# Altium integrated library Oscillators - Crystals.IntLib: 746 symbols (part 13 of 17)
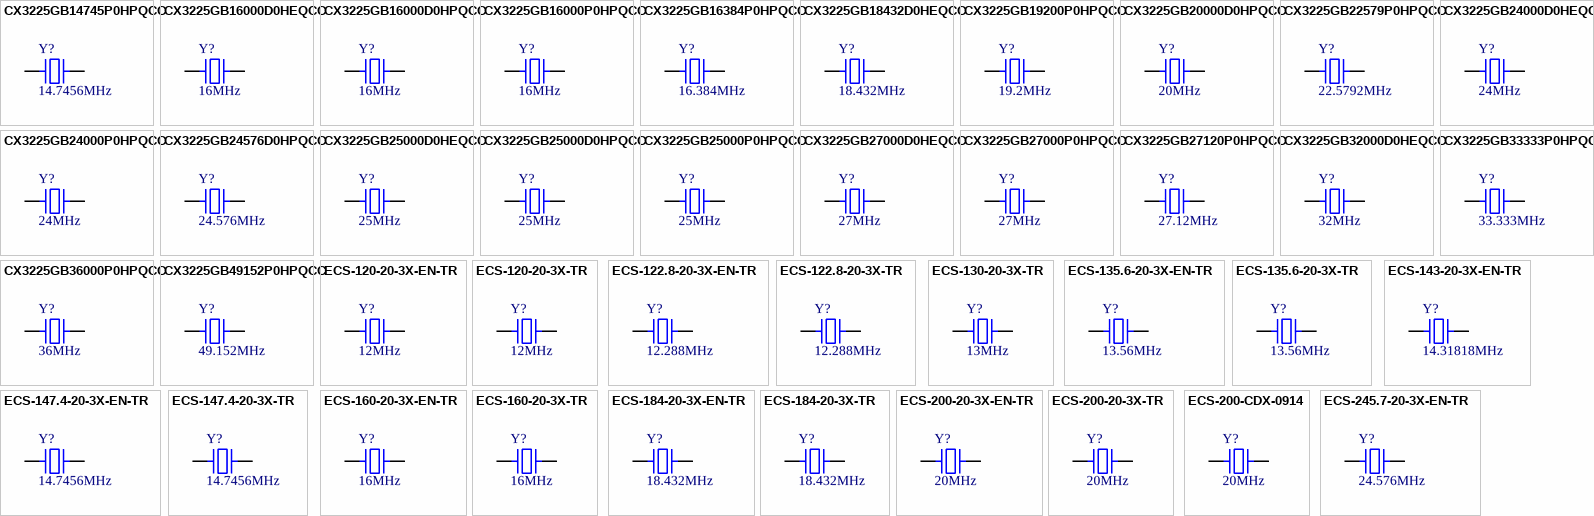
[diagram p30: symbols CX3225GB14745P0HPQCC to ECS-245.7-20-3X-EN-TR]

## ECS-122.8-20-3X-EN-TR
designator Y?, comment 12.288MHz
CRYSTAL 12.2880MHZ 20PF SMD; Part Number: ECS-122.8-20-3X-EN-TR; Manufacturer: ECS Inc.; ESR (Equivalent Series Resistance): 60 Ohms; Frequency Stability: ±50ppm; Frequency Tolerance: ±30ppm; Operating Mode: Fundamental; ComponentLink1Description: Datasheet; ComponentLink1URL: http://www.ecsxtal.com/store/pdf/CSM-3X.pdf; ComponentLink2Description: DigiKey Link; ComponentLink2URL: http://digikey.com/product-detail/en/ecs-inc/ECS-122.8-20-3X-EN-TR/XC1788CT-ND/2676652; Frequency: 12.288MHz; Height - Seated (Max): 0.091" (2.30mm); LastUpdated: 9/2/2020 1:21:54 AM; Lifecycle Status: Active; Load Capacitance: 20pF; Minimum Order: 1; Mounting Type: Surface Mount; Operating Temperature: -40°C ~ 85°C; Package / Case: HC-49/US; Packaging: TapeAndReel; PartId: 405; Part Status: Active; Price: 0.21; Series: CSM-3X; Size / Dimension: 0.276" L x 0.161" W (7.00mm x 4.10mm); Supplier 1: DigiKey; Supplier Part Number 1: XC1788CT-ND; Type: MHz Crystal; Value: 12.288MHz
footprint ECS CSM-3X
pins: 1, 2

## ECS-122.8-20-3X-TR
designator Y?, comment 12.288MHz
CRYSTAL 12.2880MHZ 20PF SMD; Part Number: ECS-122.8-20-3X-TR; Manufacturer: ECS Inc.; ESR (Equivalent Series Resistance): 60 Ohms; Frequency Stability: ±50ppm; Frequency Tolerance: ±30ppm; Operating Mode: Fundamental; ComponentLink1Description: Datasheet; ComponentLink1URL: http://www.ecsxtal.com/store/pdf/CSM-3X.pdf; ComponentLink2Description: DigiKey Link; ComponentLink2URL: http://digikey.com/product-detail/en/ecs-inc/ECS-122.8-20-3X-TR/XC1771CT-ND/2676635; Frequency: 12.288MHz; Height - Seated (Max): 0.091" (2.30mm); LastUpdated: 9/2/2020 1:21:54 AM; Lifecycle Status: Active; Load Capacitance: 20pF; Minimum Order: 1; Mounting Type: Surface Mount; Operating Temperature: -10°C ~ 70°C; Package / Case: HC-49/US; Packaging: CutTape; PartId: 415; Part Status: Active; Price: 0.38; Series: CSM-3X; Size / Dimension: 0.276" L x 0.161" W (7.00mm x 4.10mm); Supplier 1: DigiKey; Supplier Part Number 1: XC1771CT-ND; Type: MHz Crystal; Value: 12.288MHz
footprint ECS CSM-3X
pins: 1, 2

## ECS-130-20-3X-TR
designator Y?, comment 13MHz
CRYSTAL 13.0000MHZ 20PF SMD; Part Number: ECS-130-20-3X-TR; Manufacturer: ECS Inc.; ESR (Equivalent Series Resistance): 60 Ohms; Frequency Stability: ±50ppm; Frequency Tolerance: ±30ppm; Operating Mode: Fundamental; ComponentLink1Description: Datasheet; ComponentLink1URL: http://www.ecsxtal.com/store/pdf/CSM-3X.pdf; ComponentLink2Description: DigiKey Link; ComponentLink2URL: http://digikey.com/product-detail/en/ecs-inc/ECS-130-20-3X-TR/XC1772CT-ND/2676636; Frequency: 13MHz; Height - Seated (Max): 0.091" (2.30mm); LastUpdated: 9/2/2020 1:21:54 AM; Lifecycle Status: Active; Load Capacitance: 20pF; Minimum Order: 1; Mounting Type: Surface Mount; Operating Temperature: -10°C ~ 70°C; Package / Case: HC-49/US; Packaging: TapeAndReel; PartId: 422; Part Status: Active; Price: 0.17; Series: CSM-3X; Size / Dimension: 0.276" L x 0.161" W (7.00mm x 4.10mm); Supplier 1: DigiKey; Supplier Part Number 1: XC1772CT-ND; Type: MHz Crystal; Value: 13MHz
footprint ECS CSM-3X
pins: 1, 2

## ECS-135.6-20-3X-EN-TR
designator Y?, comment 13.56MHz
CRYSTAL 13.5600MHZ 20PF SMD; Part Number: ECS-135.6-20-3X-EN-TR; Manufacturer: ECS Inc.; ESR (Equivalent Series Resistance): 60 Ohms; Frequency Stability: ±50ppm; Frequency Tolerance: ±30ppm; Operating Mode: Fundamental; ComponentLink1Description: Datasheet; ComponentLink1URL: http://www.ecsxtal.com/store/pdf/CSM-3X.pdf; ComponentLink2Description: DigiKey Link; ComponentLink2URL: http://digikey.com/product-detail/en/ecs-inc/ECS-135.6-20-3X-EN-TR/XC1790CT-ND/2676654; Frequency: 13.56MHz; Height - Seated (Max): 0.091" (2.30mm); LastUpdated: 9/2/2020 1:21:54 AM; Lifecycle Status: Active; Load Capacitance: 20pF; Minimum Order: 1; Mounting Type: Surface Mount; Operating Temperature: -40°C ~ 85°C; Package / Case: HC-49/US; Packaging: TapeAndReel; PartId: 425; Part Status: Active; Price: 0.21; Series: CSM-3X; Size / Dimension: 0.276" L x 0.161" W (7.00mm x 4.10mm); Supplier 1: DigiKey; Supplier Part Number 1: XC1790CT-ND; Type: MHz Crystal; Value: 13.56MHz
footprint ECS CSM-3X
pins: 1, 2

## ECS-135.6-20-3X-TR
designator Y?, comment 13.56MHz
CRYSTAL 13.5600MHZ 20PF SMD; Part Number: ECS-135.6-20-3X-TR; Manufacturer: ECS Inc.; ESR (Equivalent Series Resistance): 60 Ohms; Frequency Stability: ±50ppm; Frequency Tolerance: ±30ppm; Operating Mode: Fundamental; ComponentLink1Description: Datasheet; ComponentLink1URL: http://www.ecsxtal.com/store/pdf/CSM-3X.pdf; ComponentLink2Description: DigiKey Link; ComponentLink2URL: http://digikey.com/product-detail/en/ecs-inc/ECS-135.6-20-3X-TR/XC1773CT-ND/2676637; Frequency: 13.56MHz; Height - Seated (Max): 0.091" (2.30mm); LastUpdated: 9/2/2020 1:21:54 AM; Lifecycle Status: Active; Load Capacitance: 20pF; Minimum Order: 1; Mounting Type: Surface Mount; Operating Temperature: -10°C ~ 70°C; Package / Case: HC-49/US; Packaging: CutTape; PartId: 413; Part Status: Active; Price: 0.38; Series: CSM-3X; Size / Dimension: 0.276" L x 0.161" W (7.00mm x 4.10mm); Supplier 1: DigiKey; Supplier Part Number 1: XC1773CT-ND; Type: MHz Crystal; Value: 13.56MHz
footprint ECS CSM-3X
pins: 1, 2

## ECS-143-20-3X-EN-TR
designator Y?, comment 14.31818MHz
CRYSTAL 14.31818MHZ 20PF SMD; Part Number: ECS-143-20-3X-EN-TR; Manufacturer: ECS Inc.; ESR (Equivalent Series Resistance): 60 Ohms; Frequency Stability: ±50ppm; Frequency Tolerance: ±30ppm; Operating Mode: Fundamental; ComponentLink1Description: Datasheet; ComponentLink1URL: http://www.ecsxtal.com/store/pdf/CSM-3X.pdf; ComponentLink2Description: DigiKey Link; ComponentLink2URL: http://digikey.com/product-detail/en/ecs-inc/ECS-143-20-3X-EN-TR/XC1791CT-ND/2676655; Frequency: 14.31818MHz; Height - Seated (Max): 0.091" (2.30mm); LastUpdated: 9/2/2020 1:21:54 AM; Lifecycle Status: Active; Load Capacitance: 20pF; Minimum Order: 1; Mounting Type: Surface Mount; Operating Temperature: -40°C ~ 85°C; Package / Case: HC-49/US; Packaging: TapeAndReel; PartId: 420; Part Status: Active; Price: 0.17; Series: CSM-3X; Size / Dimension: 0.276" L x 0.161" W (7.00mm x 4.10mm); Supplier 1: DigiKey; Supplier Part Number 1: XC1791CT-ND; Type: MHz Crystal; Value: 14.31818MHz
footprint ECS CSM-3X
pins: 1, 2

## ECS-147.4-20-3X-EN-TR
designator Y?, comment 14.7456MHz
CRYSTAL 14.7456MHZ 20PF SMD; Part Number: ECS-147.4-20-3X-EN-TR; Manufacturer: ECS Inc.; ESR (Equivalent Series Resistance): 60 Ohms; Frequency Stability: ±50ppm; Frequency Tolerance: ±30ppm; Operating Mode: Fundamental; ComponentLink1Description: Datasheet; ComponentLink1URL: http://www.ecsxtal.com/store/pdf/CSM-3X.pdf; ComponentLink2Description: DigiKey Link; ComponentLink2URL: http://digikey.com/product-detail/en/ecs-inc/ECS-147.4-20-3X-EN-TR/XC1792CT-ND/2676656; Frequency: 14.7456MHz; Height - Seated (Max): 0.091" (2.30mm); LastUpdated: 9/2/2020 1:21:54 AM; Lifecycle Status: Active; Load Capacitance: 20pF; Minimum Order: 1; Mounting Type: Surface Mount; Operating Temperature: -40°C ~ 85°C; Package / Case: HC-49/US; Packaging: CutTape; PartId: 423; Part Status: Active; Price: 0.46; Series: CSM-3X; Size / Dimension: 0.276" L x 0.161" W (7.00mm x 4.10mm); Supplier 1: DigiKey; Supplier Part Number 1: XC1792CT-ND; Type: MHz Crystal; Value: 14.7456MHz
footprint ECS CSM-3X
pins: 1, 2

## ECS-147.4-20-3X-TR
designator Y?, comment 14.7456MHz
CRYSTAL 14.7456MHZ 20PF SMD; Part Number: ECS-147.4-20-3X-TR; Manufacturer: ECS Inc.; ESR (Equivalent Series Resistance): 60 Ohms; Frequency Stability: ±50ppm; Frequency Tolerance: ±30ppm; Operating Mode: Fundamental; ComponentLink1Description: Datasheet; ComponentLink1URL: http://www.ecsxtal.com/store/pdf/CSM-3X.pdf; ComponentLink2Description: DigiKey Link; ComponentLink2URL: http://digikey.com/product-detail/en/ecs-inc/ECS-147.4-20-3X-TR/XC1775CT-ND/2676639; Frequency: 14.7456MHz; Height - Seated (Max): 0.091" (2.30mm); LastUpdated: 9/2/2020 1:21:54 AM; Lifecycle Status: Active; Load Capacitance: 20pF; Minimum Order: 1; Mounting Type: Surface Mount; Operating Temperature: -10°C ~ 70°C; Package / Case: HC-49/US; Packaging: TapeAndReel; PartId: 414; Part Status: Active; Price: 0.17; Series: CSM-3X; Size / Dimension: 0.276" L x 0.161" W (7.00mm x 4.10mm); Supplier 1: DigiKey; Supplier Part Number 1: XC1775CT-ND; Type: MHz Crystal; Value: 14.7456MHz
footprint ECS CSM-3X
pins: 1, 2

## ECS-160-20-3X-EN-TR
designator Y?, comment 16MHz
CRYSTAL 16.0000MHZ 20PF SMD; Part Number: ECS-160-20-3X-EN-TR; Manufacturer: ECS Inc.; ESR (Equivalent Series Resistance): 50 Ohms; Frequency Stability: ±50ppm; Frequency Tolerance: ±30ppm; Operating Mode: Fundamental; ComponentLink1Description: Datasheet; ComponentLink1URL: http://www.ecsxtal.com/store/pdf/CSM-3X.pdf; ComponentLink2Description: DigiKey Link; ComponentLink2URL: http://digikey.com/product-detail/en/ecs-inc/ECS-160-20-3X-EN-TR/XC1793CT-ND/2676657; Frequency: 16MHz; Height - Seated (Max): 0.091" (2.30mm); LastUpdated: 9/2/2020 1:21:54 AM; Lifecycle Status: Active; Load Capacitance: 20pF; Minimum Order: 1; Mounting Type: Surface Mount; Operating Temperature: -40°C ~ 85°C; Package / Case: HC-49/US; Packaging: TapeAndReel; PartId: 406; Part Status: Active; Price: 0.21; Series: CSM-3X; Size / Dimension: 0.276" L x 0.161" W (7.00mm x 4.10mm); Supplier 1: DigiKey; Supplier Part Number 1: XC1793CT-ND; Type: MHz Crystal; Value: 16MHz
footprint ECS CSM-3X
pins: 1, 2

## ECS-160-20-3X-TR
designator Y?, comment 16MHz
CRYSTAL 16.0000MHZ 20PF SMD; Part Number: ECS-160-20-3X-TR; Manufacturer: ECS Inc.; ESR (Equivalent Series Resistance): 50 Ohms; Frequency Stability: ±50ppm; Frequency Tolerance: ±30ppm; Operating Mode: Fundamental; ComponentLink1Description: Datasheet; ComponentLink1URL: http://www.ecsxtal.com/store/pdf/CSM-3X.pdf; ComponentLink2Description: DigiKey Link; ComponentLink2URL: http://digikey.com/product-detail/en/ecs-inc/ECS-160-20-3X-TR/XC1776CT-ND/2676640; Frequency: 16MHz; Height - Seated (Max): 0.091" (2.30mm); LastUpdated: 9/2/2020 1:21:54 AM; Lifecycle Status: Active; Load Capacitance: 20pF; Minimum Order: 1; Mounting Type: Surface Mount; Operating Temperature: -10°C ~ 70°C; Package / Case: HC-49/US; Packaging: TapeAndReel; PartId: 400; Part Status: Active; Price: 0.17; Series: CSM-3X; Size / Dimension: 0.276" L x 0.161" W (7.00mm x 4.10mm); Supplier 1: DigiKey; Supplier Part Number 1: XC1776CT-ND; Type: MHz Crystal; Value: 16MHz
footprint ECS CSM-3X
pins: 1, 2

## ECS-184-20-3X-EN-TR
designator Y?, comment 18.432MHz
CRYSTAL 18.4320MHZ 20PF SMD; Part Number: ECS-184-20-3X-EN-TR; Manufacturer: ECS Inc.; ESR (Equivalent Series Resistance): 50 Ohms; Frequency Stability: ±50ppm; Frequency Tolerance: ±30ppm; Operating Mode: Fundamental; ComponentLink1Description: Datasheet; ComponentLink1URL: http://www.ecsxtal.com/store/pdf/CSM-3X.pdf; ComponentLink2Description: DigiKey Link; ComponentLink2URL: http://digikey.com/product-detail/en/ecs-inc/ECS-184-20-3X-EN-TR/XC1794CT-ND/2676658; Frequency: 18.432MHz; Height - Seated (Max): 0.091" (2.30mm); LastUpdated: 9/2/2020 1:21:54 AM; Lifecycle Status: Active; Load Capacitance: 20pF; Minimum Order: 1; Mounting Type: Surface Mount; Operating Temperature: -40°C ~ 85°C; Package / Case: HC-49/US; Packaging: TapeAndReel; PartId: 410; Part Status: Active; Price: 0.17; Series: CSM-3X; Size / Dimension: 0.276" L x 0.161" W (7.00mm x 4.10mm); Supplier 1: DigiKey; Supplier Part Number 1: XC1794CT-ND; Type: MHz Crystal; Value: 18.432MHz
footprint ECS CSM-3X
pins: 1, 2

## ECS-184-20-3X-TR
designator Y?, comment 18.432MHz
CRYSTAL 18.4320MHZ 20PF SMD; Part Number: ECS-184-20-3X-TR; Manufacturer: ECS Inc.; ESR (Equivalent Series Resistance): 50 Ohms; Frequency Stability: ±50ppm; Frequency Tolerance: ±30ppm; Operating Mode: Fundamental; ComponentLink1Description: Datasheet; ComponentLink1URL: http://www.ecsxtal.com/store/pdf/CSM-3X.pdf; ComponentLink2Description: DigiKey Link; ComponentLink2URL: http://digikey.com/product-detail/en/ecs-inc/ECS-184-20-3X-TR/XC1777CT-ND/2676641; Frequency: 18.432MHz; Height - Seated (Max): 0.091" (2.30mm); LastUpdated: 9/2/2020 1:21:54 AM; Lifecycle Status: Active; Load Capacitance: 20pF; Minimum Order: 1; Mounting Type: Surface Mount; Operating Temperature: -10°C ~ 70°C; Package / Case: HC-49/US; Packaging: TapeAndReel; PartId: 402; Part Status: Active; Price: 0.17; Series: CSM-3X; Size / Dimension: 0.276" L x 0.161" W (7.00mm x 4.10mm); Supplier 1: DigiKey; Supplier Part Number 1: XC1777CT-ND; Type: MHz Crystal; Value: 18.432MHz
footprint ECS CSM-3X
pins: 1, 2

## ECS-200-20-3X-EN-TR
designator Y?, comment 20MHz
CRYSTAL 20.0000MHZ 20PF SMD; Part Number: ECS-200-20-3X-EN-TR; Manufacturer: ECS Inc.; ESR (Equivalent Series Resistance): 50 Ohms; Frequency Stability: ±50ppm; Frequency Tolerance: ±30ppm; Operating Mode: Fundamental; ComponentLink1Description: Datasheet; ComponentLink1URL: http://www.ecsxtal.com/store/pdf/CSM-3X.pdf; ComponentLink2Description: DigiKey Link; ComponentLink2URL: http://digikey.com/product-detail/en/ecs-inc/ECS-200-20-3X-EN-TR/XC1796CT-ND/2676660; Frequency: 20MHz; Height - Seated (Max): 0.091" (2.30mm); LastUpdated: 9/2/2020 1:21:54 AM; Lifecycle Status: Active; Load Capacitance: 20pF; Minimum Order: 1; Mounting Type: Surface Mount; Operating Temperature: -40°C ~ 85°C; Package / Case: HC-49/US; Packaging: TapeAndReel; PartId: 408; Part Status: Active; Price: 0.24; Series: CSM-3X; Size / Dimension: 0.276" L x 0.161" W (7.00mm x 4.10mm); Supplier 1: DigiKey; Supplier Part Number 1: XC1796CT-ND; Type: MHz Crystal; Value: 20MHz
footprint ECS CSM-3X
pins: 1, 2

## ECS-200-20-3X-TR
designator Y?, comment 20MHz
CRYSTAL 20.0000MHZ 20PF SMD; Part Number: ECS-200-20-3X-TR; Manufacturer: ECS Inc.; ESR (Equivalent Series Resistance): 50 Ohms; Frequency Stability: ±50ppm; Frequency Tolerance: ±30ppm; Operating Mode: Fundamental; ComponentLink1Description: Datasheet; ComponentLink1URL: http://www.ecsxtal.com/store/pdf/CSM-3X.pdf; ComponentLink2Description: DigiKey Link; ComponentLink2URL: http://digikey.com/product-detail/en/ecs-inc/ECS-200-20-3X-TR/XC1779CT-ND/2676643; Frequency: 20MHz; Height - Seated (Max): 0.091" (2.30mm); LastUpdated: 9/2/2020 1:21:54 AM; Lifecycle Status: Active; Load Capacitance: 20pF; Minimum Order: 1; Mounting Type: Surface Mount; Operating Temperature: -10°C ~ 70°C; Package / Case: HC-49/US; Packaging: TapeAndReel; PartId: 416; Part Status: Active; Price: 0.17; Series: CSM-3X; Size / Dimension: 0.276" L x 0.161" W (7.00mm x 4.10mm); Supplier 1: DigiKey; Supplier Part Number 1: XC1779CT-ND; Type: MHz Crystal; Value: 20MHz
footprint ECS CSM-3X
pins: 1, 2

## ECS-200-CDX-0914
designator Y?, comment 20MHz
CRYSTAL 20.0000MHZ 10PF SMD; Part Number: ECS-200-CDX-0914; Manufacturer: ECS Inc.; ESR (Equivalent Series Resistance): 50 Ohms; Frequency Stability: ±30ppm; Frequency Tolerance: ±10ppm; Operating Mode: Fundamental; ComponentLink1Description: Datasheet; ComponentLink1URL: http://www.ecsxtal.com/store/pdf/partnumber4.pdf; ComponentLink2Description: DigiKey Link; ComponentLink2URL: http://digikey.com/product-detail/en/ecs-inc/ECS-200-CDX-0914/XC1929CT-ND/3927419; Frequency: 20MHz; Height - Seated (Max): 0.091" (2.30mm); LastUpdated: 9/2/2020 1:21:54 AM; Lifecycle Status: Active; Load Capacitance: 10pF; Minimum Order: 1; Mounting Type: Surface Mount; Operating Temperature: -60°C ~ 105°C; Package / Case: HC-49/US; Packaging: TapeAndReel; PartId: 426; Part Status: Active; Price: 0.48; Series: CSM-3X; Size / Dimension: 0.299" L x 0.161" W (7.60mm x 4.10mm); Supplier 1: DigiKey; Supplier Part Number 1: XC1929CT-ND; Type: MHz Crystal; Value: 20MHz
footprint ECS CSM-3X
pins: 1, 2

## ECS-245.7-20-3X-EN-TR
designator Y?, comment 24.576MHz
CRYSTAL 24.5760MHZ 20PF SMD; Part Number: ECS-245.7-20-3X-EN-TR; Manufacturer: ECS Inc.; ESR (Equivalent Series Resistance): 50 Ohms; Frequency Stability: ±50ppm; Frequency Tolerance: ±30ppm; Operating Mode: Fundamental; ComponentLink1Description: Datasheet; ComponentLink1URL: http://www.ecsxtal.com/store/pdf/CSM-3X.pdf; ComponentLink2Description: DigiKey Link; ComponentLink2URL: http://digikey.com/product-detail/en/ecs-inc/ECS-245.7-20-3X-EN-TR/XC1797CT-ND/2676661; Frequency: 24.576MHz; Height - Seated (Max): 0.091" (2.30mm); LastUpdated: 9/2/2020 1:21:54 AM; Lifecycle Status: Active; Load Capacitance: 20pF; Minimum Order: 1; Mounting Type: Surface Mount; Operating Temperature: -40°C ~ 85°C; Package / Case: HC-49/US; Packaging: TapeAndReel; PartId: 399; Part Status: Active; Price: 0.17; Series: CSM-3X; Size / Dimension: 0.276" L x 0.161" W (7.00mm x 4.10mm); Supplier 1: DigiKey; Supplier Part Number 1: XC1797CT-ND; Type: MHz Crystal; Value: 24.576MHz
footprint ECS CSM-3X
pins: 1, 2

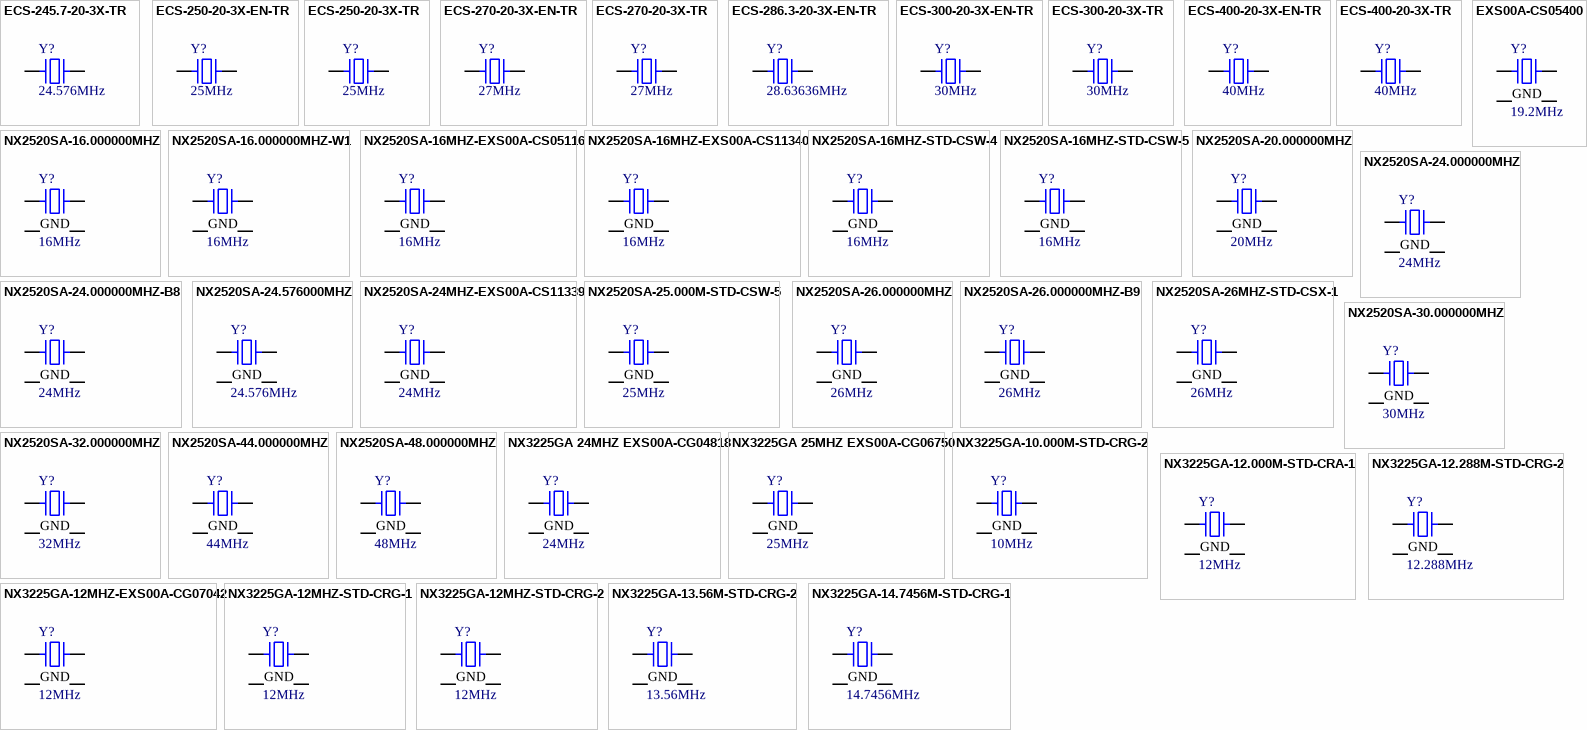
[diagram p14: symbols ECS-245.7-20-3X-TR to NX3225GA-14.7456M-STD-CRG-1]

## ECS-245.7-20-3X-TR
designator Y?, comment 24.576MHz
CRYSTAL 24.5760MHZ 20PF SMD; Part Number: ECS-245.7-20-3X-TR; Manufacturer: ECS Inc.; ESR (Equivalent Series Resistance): 50 Ohms; Frequency Stability: ±50ppm; Frequency Tolerance: ±30ppm; Operating Mode: Fundamental; ComponentLink1Description: Datasheet; ComponentLink1URL: http://www.ecsxtal.com/store/pdf/CSM-3X.pdf; ComponentLink2Description: DigiKey Link; ComponentLink2URL: http://digikey.com/product-detail/en/ecs-inc/ECS-245.7-20-3X-TR/XC1780CT-ND/2676644; Frequency: 24.576MHz; Height - Seated (Max): 0.091" (2.30mm); LastUpdated: 9/2/2020 1:21:54 AM; Lifecycle Status: Active; Load Capacitance: 20pF; Minimum Order: 1; Mounting Type: Surface Mount; Operating Temperature: -10°C ~ 70°C; Package / Case: HC-49/US; Packaging: CutTape; PartId: 412; Part Status: Active; Price: 0.38; Series: CSM-3X; Size / Dimension: 0.276" L x 0.161" W (7.00mm x 4.10mm); Supplier 1: DigiKey; Supplier Part Number 1: XC1780CT-ND; Type: MHz Crystal; Value: 24.576MHz
footprint ECS CSM-3X
pins: 1, 2

## ECS-250-20-3X-EN-TR
designator Y?, comment 25MHz
CRYSTAL 25.0000MHZ 20PF SMD; Part Number: ECS-250-20-3X-EN-TR; Manufacturer: ECS Inc.; ESR (Equivalent Series Resistance): 50 Ohms; Frequency Stability: ±50ppm; Frequency Tolerance: ±30ppm; Operating Mode: Fundamental; ComponentLink1Description: Datasheet; ComponentLink1URL: http://www.ecsxtal.com/store/pdf/CSM-3X.pdf; ComponentLink2Description: DigiKey Link; ComponentLink2URL: http://digikey.com/product-detail/en/ecs-inc/ECS-250-20-3X-EN-TR/XC1798CT-ND/2676662; Frequency: 25MHz; Height - Seated (Max): 0.091" (2.30mm); LastUpdated: 9/2/2020 1:21:54 AM; Lifecycle Status: Active; Load Capacitance: 20pF; Minimum Order: 1; Mounting Type: Surface Mount; Operating Temperature: -40°C ~ 85°C; Package / Case: HC-49/US; Packaging: TapeAndReel; PartId: 424; Part Status: Active; Price: 0.21; Series: CSM-3X; Size / Dimension: 0.276" L x 0.161" W (7.00mm x 4.10mm); Supplier 1: DigiKey; Supplier Part Number 1: XC1798CT-ND; Type: MHz Crystal; Value: 25MHz
footprint ECS CSM-3X
pins: 1, 2

## ECS-250-20-3X-TR
designator Y?, comment 25MHz
CRYSTAL 25.0000MHZ 20PF SMD; Part Number: ECS-250-20-3X-TR; Manufacturer: ECS Inc.; ESR (Equivalent Series Resistance): 50 Ohms; Frequency Stability: ±50ppm; Frequency Tolerance: ±30ppm; Operating Mode: Fundamental; ComponentLink1Description: Datasheet; ComponentLink1URL: http://www.ecsxtal.com/store/pdf/CSM-3X.pdf; ComponentLink2Description: DigiKey Link; ComponentLink2URL: http://digikey.com/product-detail/en/ecs-inc/ECS-250-20-3X-TR/XC1781CT-ND/2676645; Frequency: 25MHz; Height - Seated (Max): 0.091" (2.30mm); LastUpdated: 9/2/2020 1:21:54 AM; Lifecycle Status: Active; Load Capacitance: 20pF; Minimum Order: 1; Mounting Type: Surface Mount; Operating Temperature: -10°C ~ 70°C; Package / Case: 2-SMD, No Lead; Packaging: TapeAndReel; PartId: 409; Part Status: Active; Price: 0.17; Series: CSM-3X; Size / Dimension: 0.276" L x 0.161" W (7.00mm x 4.10mm); Supplier 1: DigiKey; Supplier Part Number 1: XC1781CT-ND; Type: MHz Crystal; Value: 25MHz
footprint ECS CSM-3X
pins: 1, 2

## ECS-270-20-3X-EN-TR
designator Y?, comment 27MHz
CRYSTAL 27.0000MHZ 20PF SMD; Part Number: ECS-270-20-3X-EN-TR; Manufacturer: ECS Inc.; ESR (Equivalent Series Resistance): 50 Ohms; Frequency Stability: ±50ppm; Frequency Tolerance: ±30ppm; Operating Mode: Fundamental; ComponentLink1Description: Datasheet; ComponentLink1URL: http://www.ecsxtal.com/store/pdf/CSM-3X.pdf; ComponentLink2Description: DigiKey Link; ComponentLink2URL: http://digikey.com/product-detail/en/ecs-inc/ECS-270-20-3X-EN-TR/XC1799CT-ND/2676663; Frequency: 27MHz; Height - Seated (Max): 0.091" (2.30mm); LastUpdated: 9/2/2020 1:21:54 AM; Lifecycle Status: Active; Load Capacitance: 20pF; Minimum Order: 1; Mounting Type: Surface Mount; Operating Temperature: -40°C ~ 85°C; Package / Case: HC-49/US; Packaging: TapeAndReel; PartId: 404; Part Status: Active; Price: 0.17; Series: CSM-3X; Size / Dimension: 0.276" L x 0.161" W (7.00mm x 4.10mm); Supplier 1: DigiKey; Supplier Part Number 1: XC1799CT-ND; Type: MHz Crystal; Value: 27MHz
footprint ECS CSM-3X
pins: 1, 2

## ECS-270-20-3X-TR
designator Y?, comment 27MHz
CRYSTAL 27.0000MHZ 20PF SMD; Part Number: ECS-270-20-3X-TR; Manufacturer: ECS Inc.; ESR (Equivalent Series Resistance): 50 Ohms; Frequency Stability: ±50ppm; Frequency Tolerance: ±30ppm; Operating Mode: Fundamental; ComponentLink1Description: Datasheet; ComponentLink1URL: http://www.ecsxtal.com/store/pdf/CSM-3X.pdf; ComponentLink2Description: DigiKey Link; ComponentLink2URL: http://digikey.com/product-detail/en/ecs-inc/ECS-270-20-3X-TR/XC1782CT-ND/2676646; Frequency: 27MHz; Height - Seated (Max): 0.091" (2.30mm); LastUpdated: 9/2/2020 1:21:54 AM; Lifecycle Status: Active; Load Capacitance: 20pF; Minimum Order: 1; Mounting Type: Surface Mount; Operating Temperature: -10°C ~ 70°C; Package / Case: HC-49/US; Packaging: TapeAndReel; PartId: 411; Part Status: Active; Price: 0.17; Series: CSM-3X; Size / Dimension: 0.276" L x 0.161" W (7.00mm x 4.10mm); Supplier 1: DigiKey; Supplier Part Number 1: XC1782CT-ND; Type: MHz Crystal; Value: 27MHz
footprint ECS CSM-3X
pins: 1, 2

## ECS-286.3-20-3X-EN-TR
designator Y?, comment 28.63636MHz
CRYSTAL 28.63636MHZ 20PF SMD; Part Number: ECS-286.3-20-3X-EN-TR; Manufacturer: ECS Inc.; ESR (Equivalent Series Resistance): 50 Ohms; Frequency Stability: ±50ppm; Frequency Tolerance: ±30ppm; Operating Mode: Fundamental; ComponentLink1Description: Datasheet; ComponentLink1URL: http://www.ecsxtal.com/store/pdf/CSM-3X.pdf; ComponentLink2Description: DigiKey Link; ComponentLink2URL: http://digikey.com/product-detail/en/ecs-inc/ECS-286.3-20-3X-EN-TR/XC1800CT-ND/2676664; Frequency: 28.63636MHz; Height - Seated (Max): 0.091" (2.30mm); LastUpdated: 9/2/2020 1:21:54 AM; Lifecycle Status: Active; Load Capacitance: 20pF; Minimum Order: 1; Mounting Type: Surface Mount; Operating Temperature: -40°C ~ 85°C; Package / Case: HC-49/US; Packaging: TapeAndReel; PartId: 417; Part Status: Active; Price: 0.17; Series: CSM-3X; Size / Dimension: 0.276" L x 0.161" W (7.00mm x 4.10mm); Supplier 1: DigiKey; Supplier Part Number 1: XC1800CT-ND; Type: MHz Crystal; Value: 28.63636MHz
footprint ECS CSM-3X
pins: 1, 2

## ECS-300-20-3X-EN-TR
designator Y?, comment 30MHz
CRYSTAL 30.0000MHZ 20PF SMD; Part Number: ECS-300-20-3X-EN-TR; Manufacturer: ECS Inc.; ESR (Equivalent Series Resistance): 40 Ohms; Frequency Stability: ±50ppm; Frequency Tolerance: ±30ppm; Operating Mode: Fundamental; ComponentLink1Description: Datasheet; ComponentLink1URL: http://www.ecsxtal.com/store/pdf/CSM-3X.pdf; ComponentLink2Description: DigiKey Link; ComponentLink2URL: http://digikey.com/product-detail/en/ecs-inc/ECS-300-20-3X-EN-TR/XC1801CT-ND/2676665; Frequency: 30MHz; Height - Seated (Max): 0.091" (2.30mm); LastUpdated: 9/2/2020 1:21:54 AM; Lifecycle Status: Active; Load Capacitance: 20pF; Minimum Order: 1; Mounting Type: Surface Mount; Operating Temperature: -40°C ~ 85°C; Package / Case: HC-49/US; Packaging: CutTape; PartId: 418; Part Status: Active; Price: 0.38; Series: CSM-3X; Size / Dimension: 0.276" L x 0.161" W (7.00mm x 4.10mm); Supplier 1: DigiKey; Supplier Part Number 1: XC1801CT-ND; Type: MHz Crystal; Value: 30MHz
footprint ECS CSM-3X
pins: 1, 2

## ECS-300-20-3X-TR
designator Y?, comment 30MHz
CRYSTAL 30.0000MHZ 20PF SMD; Part Number: ECS-300-20-3X-TR; Manufacturer: ECS Inc.; ESR (Equivalent Series Resistance): 40 Ohms; Frequency Stability: ±50ppm; Frequency Tolerance: ±30ppm; Operating Mode: Fundamental; ComponentLink1Description: Datasheet; ComponentLink1URL: http://www.ecsxtal.com/store/pdf/CSM-3X.pdf; ComponentLink2Description: DigiKey Link; ComponentLink2URL: http://digikey.com/product-detail/en/ecs-inc/ECS-300-20-3X-TR/XC1784CT-ND/2676648; Frequency: 30MHz; Height - Seated (Max): 0.091" (2.30mm); LastUpdated: 9/2/2020 1:21:54 AM; Lifecycle Status: Active; Load Capacitance: 20pF; Minimum Order: 1; Mounting Type: Surface Mount; Operating Temperature: -10°C ~ 70°C; Package / Case: HC-49/US; Packaging: TapeAndReel; PartId: 421; Part Status: Active; Price: 0.17; Series: CSM-3X; Size / Dimension: 0.276" L x 0.161" W (7.00mm x 4.10mm); Supplier 1: DigiKey; Supplier Part Number 1: XC1784CT-ND; Type: MHz Crystal; Value: 30MHz
footprint ECS CSM-3X
pins: 1, 2

## ECS-400-20-3X-EN-TR
designator Y?, comment 40MHz
CRYSTAL 40.0000MHZ 20PF SMD; Part Number: ECS-400-20-3X-EN-TR; Manufacturer: ECS Inc.; ESR (Equivalent Series Resistance): 40 Ohms; Frequency Stability: ±50ppm; Frequency Tolerance: ±30ppm; Operating Mode: Fundamental; ComponentLink1Description: Datasheet; ComponentLink1URL: http://www.ecsxtal.com/store/pdf/CSM-3X.pdf; ComponentLink2Description: DigiKey Link; ComponentLink2URL: http://digikey.com/product-detail/en/ecs-inc/ECS-400-20-3X-EN-TR/XC1803CT-ND/2676667; Frequency: 40MHz; Height - Seated (Max): 0.091" (2.30mm); LastUpdated: 9/2/2020 1:21:54 AM; Lifecycle Status: Active; Load Capacitance: 20pF; Minimum Order: 1; Mounting Type: Surface Mount; Operating Temperature: -40°C ~ 85°C; Package / Case: HC-49/US; Packaging: CutTape; PartId: 419; Part Status: Active; Price: 0.38; Series: CSM-3X; Size / Dimension: 0.276" L x 0.161" W (7.00mm x 4.10mm); Supplier 1: DigiKey; Supplier Part Number 1: XC1803CT-ND; Type: MHz Crystal; Value: 40MHz
footprint ECS CSM-3X
pins: 1, 2

## ECS-400-20-3X-TR
designator Y?, comment 40MHz
CRYSTAL 40.0000MHZ 20PF SMD; Part Number: ECS-400-20-3X-TR; Manufacturer: ECS Inc.; ESR (Equivalent Series Resistance): 40 Ohms; Frequency Stability: ±50ppm; Frequency Tolerance: ±30ppm; Operating Mode: Fundamental; ComponentLink1Description: Datasheet; ComponentLink1URL: http://www.ecsxtal.com/store/pdf/CSM-3X.pdf; ComponentLink2Description: DigiKey Link; ComponentLink2URL: http://digikey.com/product-detail/en/ecs-inc/ECS-400-20-3X-TR/XC1786CT-ND/2676650; Frequency: 40MHz; Height - Seated (Max): 0.091" (2.30mm); LastUpdated: 9/2/2020 1:21:54 AM; Lifecycle Status: Active; Load Capacitance: 20pF; Minimum Order: 1; Mounting Type: Surface Mount; Operating Temperature: -10°C ~ 70°C; Package / Case: HC-49/US; Packaging: TapeAndReel; PartId: 403; Part Status: Active; Price: 0.17; Series: CSM-3X; Size / Dimension: 0.276" L x 0.161" W (7.00mm x 4.10mm); Supplier 1: DigiKey; Supplier Part Number 1: XC1786CT-ND; Type: MHz Crystal; Value: 40MHz
footprint ECS CSM-3X
pins: 1, 2

## EXS00A-CS05400
designator Y?, comment 19.2MHz
CRYSTAL 19.2000MHZ 13PF SMD; Part Number: EXS00A-CS05400; Manufacturer: NDK America, Inc.; ESR (Equivalent Series Resistance): 60 Ohms; Frequency Stability: ±30ppm; Frequency Tolerance: ±20ppm; Operating Mode: Fundamental; ComponentLink1Description: Datasheet; ComponentLink1URL: //media.digikey.com/pdf/Data%20Sheets/NDK%20PDFs/NX2520SA-19.200000MHZ-NBG1.pdf; ComponentLink2Description: DigiKey Link; ComponentLink2URL: http://digikey.com/product-detail/en/ndk-america-inc/EXS00A-CS05400/644-1162-1-ND/3125551; Frequency: 19.2MHz; Height - Seated (Max): 0.022" (0.55mm); LastUpdated: 9/2/2020 1:21:57 AM; Lifecycle Status: Active; Load Capacitance: 13pF; Minimum Order: 1; Mounting Type: Surface Mount; Operating Temperature: -30°C ~ 85°C; Package / Case: 4-SMD, No Lead; Packaging: TapeAndReel; PartId: 530; Part Status: Active; Price: 0.66; Series: NX2520SA; Size / Dimension: 0.098" L x 0.079" W (2.50mm x 2.00mm); Supplier 1: DigiKey; Supplier Part Number 1: 644-1162-1-ND; Type: MHz Crystal; Value: 19.2MHz
footprint NDK NX2520SA
pins: 1, 2 GND, 3, 4 GND

## NX2520SA-16.000000MHZ
designator Y?, comment 16MHz
CRYSTAL 16.0000MHZ 10PF SMD; Part Number: NX2520SA-16.000000MHZ; Manufacturer: NDK America, Inc.; ESR (Equivalent Series Resistance): 80 Ohms; Frequency Stability: ±10ppm; Operating Mode: Fundamental; ComponentLink1Description: Datasheet; ComponentLink1URL: //media.digikey.com/pdf/Data%20Sheets/NDK%20PDFs/NX2520SA_16-48MHZ.pdf; ComponentLink2Description: DigiKey Link; ComponentLink2URL: http://digikey.com/product-detail/en/ndk-america-inc/NX2520SA-16.000000MHZ/644-1059-1-ND/1128931; Frequency: 16MHz; Frequency Tolerance: ±10ppm; Height - Seated (Max): 0.026" (0.65mm); LastUpdated: 9/2/2020 1:21:57 AM; Lifecycle Status: Active; Load Capacitance: 10pF; Minimum Order: 1; Mounting Type: Surface Mount; Operating Temperature: -10°C ~ 60°C; Package / Case: 4-SMD, No Lead; Packaging: TapeAndReel; PartId: 531; Part Status: Active; Price: 0.73; Series: NX2520SA; Size / Dimension: 0.098" L x 0.079" W (2.50mm x 2.00mm); Supplier 1: DigiKey; Supplier Part Number 1: 644-1059-1-ND; Type: MHz Crystal; Value: 16MHz
footprint NDK NX2520SA
pins: 1, 2 GND, 3, 4 GND

## NX2520SA-16.000000MHZ-W1
designator Y?, comment 16MHz
CRYSTAL 16.0000MHZ 8PF SMD; Part Number: NX2520SA-16.000000MHZ-W1; Manufacturer: NDK America, Inc.; ESR (Equivalent Series Resistance): 120 Ohms; Frequency Stability: ±20ppm; Operating Mode: Fundamental; ComponentLink1Description: Datasheet; ComponentLink1URL: //media.digikey.com/pdf/Data Sheets/NDK PDFs/NX2520SA-16.000000MHz-W1.pdf; ComponentLink2Description: DigiKey Link; ComponentLink2URL: http://digikey.com/product-detail/en/ndk-america-inc/NX2520SA-16.000000MHZ-W1/644-1093-1-ND/1468354; Frequency: 16MHz; Frequency Tolerance: ±20ppm; Height - Seated (Max): 0.026" (0.65mm); LastUpdated: 9/2/2020 1:21:57 AM; Lifecycle Status: Active; Load Capacitance: 8pF; Minimum Order: 1; Mounting Type: Surface Mount; Operating Temperature: -40°C ~ 85°C; Package / Case: 4-SMD, No Lead; Packaging: TapeAndReel; PartId: 523; Part Status: Active; Price: 0.79; Series: NX2520SA; Size / Dimension: 0.098" L x 0.079" W (2.50mm x 2.00mm); Supplier 1: DigiKey; Supplier Part Number 1: 644-1093-1-ND; Type: MHz Crystal; Value: 16MHz
footprint NDK NX2520SA
pins: 1, 2 GND, 3, 4 GND

## NX2520SA-16MHZ-EXS00A-CS05116
designator Y?, comment 16MHz
CRYSTAL 16.0000MHZ 12PF SMD; Part Number: NX2520SA-16MHZ-EXS00A-CS05116; Manufacturer: NDK America, Inc.; ESR (Equivalent Series Resistance): 80 Ohms; Frequency Stability: ±15ppm; Operating Mode: Fundamental; ComponentLink1Description: Datasheet; ComponentLink1URL: //media.digikey.com/pdf/Data%20Sheets/NDK%20PDFs/NX2520SA-16MHZ-EXS00A-CS05116.pdf; ComponentLink2Description: DigiKey Link; ComponentLink2URL: http://digikey.com/product-detail/en/ndk-america-inc/NX2520SA-16MHZ-EXS00A-CS05116/644-1200-1-ND/3894082; Frequency: 16MHz; Frequency Tolerance: ±15ppm; Height - Seated (Max): 0.022" (0.55mm); LastUpdated: 9/2/2020 1:21:57 AM; Lifecycle Status: Active; Load Capacitance: 12pF; Minimum Order: 1; Mounting Type: Surface Mount; Operating Temperature: -10°C ~ 75°C; Package / Case: 4-SMD, No Lead; Packaging: TapeAndReel; PartId: 522; Part Status: Active; Price: 0.79; Series: NX2520SA; Size / Dimension: 0.098" L x 0.079" W (2.50mm x 2.00mm); Supplier 1: DigiKey; Supplier Part Number 1: 644-1200-1-ND; Type: MHz Crystal; Value: 16MHz
footprint NDK NX2520SA
pins: 1, 2 GND, 3, 4 GND

## NX2520SA-16MHZ-EXS00A-CS11340
designator Y?, comment 16MHz
CRYSTAL 16MHZ 8PF SMD; Part Number: NX2520SA-16MHZ-EXS00A-CS11340; Manufacturer: NDK America, Inc.; ESR (Equivalent Series Resistance): 80 Ohms; Frequency Stability: ±15ppm; Operating Mode: Fundamental; ComponentLink1Description: Datasheet; ComponentLink1URL: //media.digikey.com/pdf/Data%20Sheets/NDK%20PDFs/NX2520SA-16MHz-EXS00A-CS11340.pdf; ComponentLink2Description: DigiKey Link; ComponentLink2URL: http://digikey.com/product-detail/en/ndk-america-inc/NX2520SA-16MHZ-EXS00A-CS11340/644-1327-1-ND/8275445; Frequency: 16MHz; Frequency Tolerance: ±15ppm; Height - Seated (Max): 0.022" (0.55mm); LastUpdated: 9/2/2020 1:21:57 AM; Lifecycle Status: Active; Load Capacitance: 8pF; Minimum Order: 1; Mounting Type: Surface Mount; Operating Temperature: -10°C ~ 70°C; Package / Case: 4-SMD, No Lead; Packaging: TapeAndReel; PartId: 525; Part Status: Active; Price: 0.73; Series: NX2520SA; Size / Dimension: 0.098" L x 0.079" W (2.50mm x 2.00mm); Supplier 1: DigiKey; Supplier Part Number 1: 644-1327-1-ND; Type: MHz Crystal; Value: 16MHz
footprint NDK NX2520SA
pins: 1, 2 GND, 3, 4 GND

## NX2520SA-16MHZ-STD-CSW-4
designator Y?, comment 16MHz
CRYSTAL 16.0000MHZ 8PF SMD; Part Number: NX2520SA-16MHZ-STD-CSW-4; Manufacturer: NDK America, Inc.; ESR (Equivalent Series Resistance): 80 Ohms; Frequency Stability: ±15ppm; Operating Mode: Fundamental; ComponentLink1Description: Datasheet; ComponentLink1URL: http://www.ndk.com/images/products/catalog/c_NX2520SA-STD-CSW-4_e.pdf; ComponentLink2Description: DigiKey Link; ComponentLink2URL: http://digikey.com/product-detail/en/ndk-america-inc/NX2520SA-16MHZ-STD-CSW-4/644-1168-1-ND/3125557; Frequency: 16MHz; Frequency Tolerance: ±15ppm; Height - Seated (Max): 0.022" (0.55mm); LastUpdated: 9/2/2020 1:21:57 AM; Lifecycle Status: Active; Load Capacitance: 8pF; Minimum Order: 1; Mounting Type: Surface Mount; Operating Temperature: -10°C ~ 75°C; Package / Case: 4-SMD, No Lead; Packaging: TapeAndReel; PartId: 529; Part Status: Active; Price: 0.58; Series: NX2520SA; Size / Dimension: 0.098" L x 0.079" W (2.50mm x 2.00mm); Supplier 1: DigiKey; Supplier Part Number 1: 644-1168-1-ND; Type: MHz Crystal; Value: 16MHz
footprint NDK NX2520SA
pins: 1, 2 GND, 3, 4 GND

## NX2520SA-16MHZ-STD-CSW-5
designator Y?, comment 16MHz
CRYSTAL 16.0000MHZ 8PF SMD; Part Number: NX2520SA-16MHZ-STD-CSW-5; Manufacturer: NDK America, Inc.; ESR (Equivalent Series Resistance): 80 Ohms; Frequency Stability: ±25ppm; Frequency Tolerance: ±15ppm; Operating Mode: Fundamental; ComponentLink1Description: Datasheet; ComponentLink1URL: http://www.ndk.com/images/products/catalog/c_NX2520SA-STD-CSW-5_e.pdf; ComponentLink2Description: DigiKey Link; ComponentLink2URL: http://digikey.com/product-detail/en/ndk-america-inc/NX2520SA-16MHZ-STD-CSW-5/644-1169-1-ND/3125558; Frequency: 16MHz; Height - Seated (Max): 0.022" (0.55mm); LastUpdated: 9/2/2020 1:21:57 AM; Lifecycle Status: Active; Load Capacitance: 8pF; Minimum Order: 1; Mounting Type: Surface Mount; Operating Temperature: -40°C ~ 85°C; Package / Case: 4-SMD, No Lead; Packaging: TapeAndReel; PartId: 528; Part Status: Active; Price: 0.58; Series: NX2520SA; Size / Dimension: 0.098" L x 0.079" W (2.50mm x 2.00mm); Supplier 1: DigiKey; Supplier Part Number 1: 644-1169-1-ND; Type: MHz Crystal; Value: 16MHz
footprint NDK NX2520SA
pins: 1, 2 GND, 3, 4 GND

## NX2520SA-20.000000MHZ
designator Y?, comment 20MHz
CRYSTAL 20.0000MHZ 10PF SMD; Part Number: NX2520SA-20.000000MHZ; Manufacturer: NDK America, Inc.; ESR (Equivalent Series Resistance): 60 Ohms; Frequency Stability: ±10ppm; Operating Mode: Fundamental; ComponentLink1Description: Datasheet; ComponentLink1URL: //media.digikey.com/pdf/Data%20Sheets/NDK%20PDFs/NX2520SA_16-48MHZ.pdf; ComponentLink2Description: DigiKey Link; ComponentLink2URL: http://digikey.com/product-detail/en/ndk-america-inc/NX2520SA-20.000000MHZ/644-1060-1-ND/1128932; Frequency: 20MHz; Frequency Tolerance: ±10ppm; Height - Seated (Max): 0.026" (0.65mm); LastUpdated: 9/2/2020 1:21:57 AM; Lifecycle Status: Active; Load Capacitance: 10pF; Minimum Order: 1; Mounting Type: Surface Mount; Operating Temperature: -10°C ~ 60°C; Package / Case: 4-SMD, No Lead; Packaging: TapeAndReel; PartId: 516; Part Status: Active; Price: 0.73; Series: NX2520SA; Size / Dimension: 0.098" L x 0.079" W (2.50mm x 2.00mm); Supplier 1: DigiKey; Supplier Part Number 1: 644-1060-1-ND; Type: MHz Crystal; Value: 20MHz
footprint NDK NX2520SA
pins: 1, 2 GND, 3, 4 GND

## NX2520SA-24.000000MHZ
designator Y?, comment 24MHz
CRYSTAL 24.0000MHZ 10PF SMD; Part Number: NX2520SA-24.000000MHZ; Manufacturer: NDK America, Inc.; ESR (Equivalent Series Resistance): 60 Ohms; Frequency Stability: ±10ppm; Operating Mode: Fundamental; ComponentLink1Description: Datasheet; ComponentLink1URL: //media.digikey.com/pdf/Data%20Sheets/NDK%20PDFs/NX2520SA_16-48MHZ.pdf; ComponentLink2Description: DigiKey Link; ComponentLink2URL: http://digikey.com/product-detail/en/ndk-america-inc/NX2520SA-24.000000MHZ/644-1061-1-ND/1128933; Frequency: 24MHz; Frequency Tolerance: ±10ppm; Height - Seated (Max): 0.026" (0.65mm); LastUpdated: 9/2/2020 1:21:57 AM; Lifecycle Status: Active; Load Capacitance: 10pF; Minimum Order: 1; Mounting Type: Surface Mount; Operating Temperature: -10°C ~ 70°C; Package / Case: 4-SMD, No Lead; Packaging: TapeAndReel; PartId: 532; Part Status: Active; Price: 0.73; Series: NX2520SA; Size / Dimension: 0.098" L x 0.079" W (2.50mm x 2.00mm); Supplier 1: DigiKey; Supplier Part Number 1: 644-1061-1-ND; Type: MHz Crystal; Value: 24MHz
footprint NDK NX2520SA
pins: 1, 2 GND, 3, 4 GND

## NX2520SA-24.000000MHZ-B8
designator Y?, comment 24MHz
CRYSTAL 24.0000MHZ 10PF SMD; Part Number: NX2520SA-24.000000MHZ-B8; Manufacturer: NDK America, Inc.; ESR (Equivalent Series Resistance): 100 Ohms; Frequency Stability: ±10ppm; Operating Mode: Fundamental; ComponentLink1Description: Datasheet; ComponentLink1URL: //media.digikey.com/pdf/Data Sheets/NDK PDFs/NX2520SA-24.000000MHz-B8.pdf; ComponentLink2Description: DigiKey Link; ComponentLink2URL: http://digikey.com/product-detail/en/ndk-america-inc/NX2520SA-24.000000MHZ-B8/644-1094-1-ND/1468355; Frequency: 24MHz; Frequency Tolerance: ±10ppm; Height - Seated (Max): 0.026" (0.65mm); LastUpdated: 9/2/2020 1:21:57 AM; Lifecycle Status: Active; Load Capacitance: 10pF; Minimum Order: 1; Mounting Type: Surface Mount; Operating Temperature: -20°C ~ 70°C; Package / Case: 4-SMD, No Lead; Packaging: TapeAndReel; PartId: 521; Part Status: Active; Price: 0.79; Series: NX2520SA; Size / Dimension: 0.098" L x 0.079" W (2.50mm x 2.00mm); Supplier 1: DigiKey; Supplier Part Number 1: 644-1094-1-ND; Type: MHz Crystal; Value: 24MHz
footprint NDK NX2520SA
pins: 1, 2 GND, 3, 4 GND

## NX2520SA-24.576000MHZ
designator Y?, comment 24.576MHz
CRYSTAL 24.5760MHZ 10PF SMD; Part Number: NX2520SA-24.576000MHZ; Manufacturer: NDK America, Inc.; ESR (Equivalent Series Resistance): 60 Ohms; Frequency Stability: ±10ppm; Operating Mode: Fundamental; ComponentLink1Description: Datasheet; ComponentLink1URL: //media.digikey.com/pdf/Data%20Sheets/NDK%20PDFs/NX2520SA_16-48MHZ.pdf; ComponentLink2Description: DigiKey Link; ComponentLink2URL: http://digikey.com/product-detail/en/ndk-america-inc/NX2520SA-24.576000MHZ/644-1062-1-ND/1128934; Frequency: 24.576MHz; Frequency Tolerance: ±10ppm; Height - Seated (Max): 0.026" (0.65mm); LastUpdated: 9/2/2020 1:21:57 AM; Lifecycle Status: Active; Load Capacitance: 10pF; Minimum Order: 1; Mounting Type: Surface Mount; Operating Temperature: -10°C ~ 60°C; Package / Case: 4-SMD, No Lead; Packaging: TapeAndReel; PartId: 524; Part Status: Active; Price: 0.73; Series: NX2520SA; Size / Dimension: 0.098" L x 0.079" W (2.50mm x 2.00mm); Supplier 1: DigiKey; Supplier Part Number 1: 644-1062-1-ND; Type: MHz Crystal; Value: 24.576MHz
footprint NDK NX2520SA
pins: 1, 2 GND, 3, 4 GND

## NX2520SA-24MHZ-EXS00A-CS11339
designator Y?, comment 24MHz
CRYSTAL 24MHZ 8PF SMD; Part Number: NX2520SA-24MHZ-EXS00A-CS11339; Manufacturer: NDK America, Inc.; ESR (Equivalent Series Resistance): 60 Ohms; Frequency Stability: ±10ppm; Operating Mode: Fundamental; ComponentLink1Description: Datasheet; ComponentLink1URL: //media.digikey.com/pdf/Data%20Sheets/NDK%20PDFs/NX2520SA-24MHz-EXS00A-CS11339.pdf; ComponentLink2Description: DigiKey Link; ComponentLink2URL: http://digikey.com/product-detail/en/ndk-america-inc/NX2520SA-24MHZ-EXS00A-CS11339/644-1326-1-ND/8275444; Frequency: 24MHz; Frequency Tolerance: ±10ppm; Height - Seated (Max): 0.022" (0.55mm); LastUpdated: 9/2/2020 1:21:57 AM; Lifecycle Status: Active; Load Capacitance: 8pF; Minimum Order: 1; Mounting Type: Surface Mount; Operating Temperature: -20°C ~ 70°C; Package / Case: 4-SMD, No Lead; Packaging: TapeAndReel; PartId: 520; Part Status: Active; Price: 0.73; Series: NX2520SA; Size / Dimension: 0.098" L x 0.079" W (2.50mm x 2.00mm); Supplier 1: DigiKey; Supplier Part Number 1: 644-1326-1-ND; Type: MHz Crystal; Value: 24MHz
footprint NDK NX2520SA
pins: 1, 2 GND, 3, 4 GND

## NX2520SA-25.000M-STD-CSW-5
designator Y?, comment 25MHz
CRYSTAL 25.0000MHZ 8PF SMD; Part Number: NX2520SA-25.000M-STD-CSW-5; Manufacturer: NDK America, Inc.; ESR (Equivalent Series Resistance): 60 Ohms; Frequency Stability: ±25ppm; Frequency Tolerance: ±15ppm; Operating Mode: Fundamental; ComponentLink1Description: Datasheet; ComponentLink1URL: http://www.ndk.com/images/products/catalog/c_NX2520SA-STD-CSW-5_e.pdf; ComponentLink2Description: DigiKey Link; ComponentLink2URL: http://digikey.com/product-detail/en/ndk-america-inc/NX2520SA-25.000M-STD-CSW-5/644-1253-1-ND/5022985; Frequency: 25MHz; Height - Seated (Max): 0.022" (0.55mm); LastUpdated: 9/2/2020 1:21:57 AM; Lifecycle Status: Active; Load Capacitance: 8pF; Minimum Order: 1; Mounting Type: Surface Mount; Operating Temperature: -40°C ~ 85°C; Package / Case: 4-SMD, No Lead; Packaging: TapeAndReel; PartId: 518; Part Status: Active; Price: 0.41; Series: NX2520SA; Size / Dimension: 0.098" L x 0.079" W (2.50mm x 2.00mm); Supplier 1: DigiKey; Supplier Part Number 1: 644-1253-1-ND; Type: MHz Crystal; Value: 25MHz
footprint NDK NX2520SA
pins: 1, 2 GND, 3, 4 GND

## NX2520SA-26.000000MHZ
designator Y?, comment 26MHz
CRYSTAL 26.0000MHZ 10PF SMD; Part Number: NX2520SA-26.000000MHZ; Manufacturer: NDK America, Inc.; ESR (Equivalent Series Resistance): 60 Ohms; Frequency Stability: ±10ppm; Operating Mode: Fundamental; ComponentLink1Description: Datasheet; ComponentLink1URL: //media.digikey.com/pdf/Data%20Sheets/NDK%20PDFs/NX2520SA_16-48MHZ.pdf; ComponentLink2Description: DigiKey Link; ComponentLink2URL: http://digikey.com/product-detail/en/ndk-america-inc/NX2520SA-26.000000MHZ/644-1063-1-ND/1128935; Frequency: 26MHz; Frequency Tolerance: ±10ppm; Height - Seated (Max): 0.026" (0.65mm); LastUpdated: 9/2/2020 1:21:57 AM; Lifecycle Status: Active; Load Capacitance: 10pF; Minimum Order: 1; Mounting Type: Surface Mount; Operating Temperature: -10°C ~ 70°C; Package / Case: 4-SMD, No Lead; Packaging: TapeAndReel; PartId: 533; Part Status: Active; Price: 0.73; Series: NX2520SA; Size / Dimension: 0.098" L x 0.079" W (2.50mm x 2.00mm); Supplier 1: DigiKey; Supplier Part Number 1: 644-1063-1-ND; Type: MHz Crystal; Value: 26MHz
footprint NDK NX2520SA
pins: 1, 2 GND, 3, 4 GND

## NX2520SA-26.000000MHZ-B9
designator Y?, comment 26MHz
CRYSTAL 26.0000MHZ 10PF SMD; Part Number: NX2520SA-26.000000MHZ-B9; Manufacturer: NDK America, Inc.; ESR (Equivalent Series Resistance): 100 Ohms; Frequency Stability: ±10ppm; Operating Mode: Fundamental; ComponentLink1Description: Datasheet; ComponentLink1URL: //media.digikey.com/pdf/Data Sheets/NDK PDFs/NX2520SA-26.000000MHz-B9.pdf; ComponentLink2Description: DigiKey Link; ComponentLink2URL: http://digikey.com/product-detail/en/ndk-america-inc/NX2520SA-26.000000MHZ-B9/644-1095-1-ND/1468356; Frequency: 26MHz; Frequency Tolerance: ±10ppm; Height - Seated (Max): 0.026" (0.65mm); LastUpdated: 9/2/2020 1:21:57 AM; Lifecycle Status: Active; Load Capacitance: 10pF; Minimum Order: 1; Mounting Type: Surface Mount; Operating Temperature: -20°C ~ 70°C; Package / Case: 4-SMD, No Lead; Packaging: TapeAndReel; PartId: 526; Part Status: Active; Price: 0.79; Series: NX2520SA; Size / Dimension: 0.098" L x 0.079" W (2.50mm x 2.00mm); Supplier 1: DigiKey; Supplier Part Number 1: 644-1095-1-ND; Type: MHz Crystal; Value: 26MHz
footprint NDK NX2520SA
pins: 1, 2 GND, 3, 4 GND

## NX2520SA-26MHZ-STD-CSX-1
designator Y?, comment 26MHz
CRYSTAL 26.0000MHZ 8PF SMD; Part Number: NX2520SA-26MHZ-STD-CSX-1; Manufacturer: NDK America, Inc.; ESR (Equivalent Series Resistance): 60 Ohms; Frequency Stability: ±10ppm; Operating Mode: Fundamental; ComponentLink1Description: Datasheet; ComponentLink1URL: http://www.ndk.com/images/products/catalog/c_NX2520SA-STD-CSX-1_e.pdf; ComponentLink2Description: DigiKey Link; ComponentLink2URL: http://digikey.com/product-detail/en/ndk-america-inc/NX2520SA-26MHZ-STD-CSX-1/644-1170-1-ND/3125559; Frequency: 26MHz; Frequency Tolerance: ±10ppm; Height - Seated (Max): 0.022" (0.55mm); LastUpdated: 9/2/2020 1:21:57 AM; Lifecycle Status: Active; Load Capacitance: 8pF; Minimum Order: 1; Mounting Type: Surface Mount; Operating Temperature: -20°C ~ 75°C; Package / Case: 4-SMD, No Lead; Packaging: TapeAndReel; PartId: 519; Part Status: Active; Price: 0.51; Series: NX2520SA; Size / Dimension: 0.098" L x 0.079" W (2.50mm x 2.00mm); Supplier 1: DigiKey; Supplier Part Number 1: 644-1170-1-ND; Type: MHz Crystal; Value: 26MHz
footprint NDK NX2520SA
pins: 1, 2 GND, 3, 4 GND

## NX2520SA-30.000000MHZ
designator Y?, comment 30MHz
CRYSTAL 30.0000MHZ 10PF SMD; Part Number: NX2520SA-30.000000MHZ; Manufacturer: NDK America, Inc.; ESR (Equivalent Series Resistance): 50 Ohms; Frequency Stability: ±10ppm; Operating Mode: Fundamental; ComponentLink1Description: Datasheet; ComponentLink1URL: //media.digikey.com/pdf/Data%20Sheets/NDK%20PDFs/NX2520SA_16-48MHZ.pdf; ComponentLink2Description: DigiKey Link; ComponentLink2URL: http://digikey.com/product-detail/en/ndk-america-inc/NX2520SA-30.000000MHZ/644-1064-1-ND/1128936; Frequency: 30MHz; Frequency Tolerance: ±10ppm; Height - Seated (Max): 0.026" (0.65mm); LastUpdated: 9/2/2020 1:21:57 AM; Lifecycle Status: Active; Load Capacitance: 10pF; Minimum Order: 1; Mounting Type: Surface Mount; Operating Temperature: -10°C ~ 60°C; Package / Case: 4-SMD, No Lead; Packaging: TapeAndReel; PartId: 517; Part Status: Active; Price: 0.73; Series: NX2520SA; Size / Dimension: 0.098" L x 0.079" W (2.50mm x 2.00mm); Supplier 1: DigiKey; Supplier Part Number 1: 644-1064-1-ND; Type: MHz Crystal; Value: 30MHz
footprint NDK NX2520SA
pins: 1, 2 GND, 3, 4 GND

## NX2520SA-32.000000MHZ
designator Y?, comment 32MHz
CRYSTAL 32.0000MHZ 10PF SMD; Part Number: NX2520SA-32.000000MHZ; Manufacturer: NDK America, Inc.; ESR (Equivalent Series Resistance): 40 Ohms; Frequency Stability: ±10ppm; Operating Mode: Fundamental; ComponentLink1Description: Datasheet; ComponentLink1URL: //media.digikey.com/pdf/Data%20Sheets/NDK%20PDFs/NX2520SA_16-48MHZ.pdf; ComponentLink2Description: DigiKey Link; ComponentLink2URL: http://digikey.com/product-detail/en/ndk-america-inc/NX2520SA-32.000000MHZ/644-1065-1-ND/1128937; Frequency: 32MHz; Frequency Tolerance: ±10ppm; Height - Seated (Max): 0.026" (0.65mm); LastUpdated: 9/2/2020 1:21:57 AM; Lifecycle Status: Active; Load Capacitance: 10pF; Minimum Order: 1; Mounting Type: Surface Mount; Operating Temperature: -10°C ~ 70°C; Package / Case: 4-SMD, No Lead; Packaging: TapeAndReel; PartId: 515; Part Status: Active; Price: 0.58; Series: NX2520SA; Size / Dimension: 0.098" L x 0.079" W (2.50mm x 2.00mm); Supplier 1: DigiKey; Supplier Part Number 1: 644-1065-1-ND; Type: MHz Crystal; Value: 32MHz
footprint NDK NX2520SA
pins: 1, 2 GND, 3, 4 GND

## NX2520SA-44.000000MHZ
designator Y?, comment 44MHz
CRYSTAL 44.0000MHZ 10PF SMD; Part Number: NX2520SA-44.000000MHZ; Manufacturer: NDK America, Inc.; ESR (Equivalent Series Resistance): 40 Ohms; Frequency Stability: ±10ppm; Operating Mode: Fundamental; ComponentLink1Description: Datasheet; ComponentLink1URL: //media.digikey.com/pdf/Data%20Sheets/NDK%20PDFs/NX2520SA_16-48MHZ.pdf; ComponentLink2Description: DigiKey Link; ComponentLink2URL: http://digikey.com/product-detail/en/ndk-america-inc/NX2520SA-44.000000MHZ/644-1067-1-ND/1128939; Frequency: 44MHz; Frequency Tolerance: ±10ppm; Height - Seated (Max): 0.026" (0.65mm); LastUpdated: 9/2/2020 1:21:57 AM; Lifecycle Status: Active; Load Capacitance: 10pF; Minimum Order: 1; Mounting Type: Surface Mount; Operating Temperature: -10°C ~ 60°C; Package / Case: 4-SMD, No Lead; Packaging: TapeAndReel; PartId: 527; Part Status: Active; Price: 0.79; Series: NX2520SA; Size / Dimension: 0.098" L x 0.079" W (2.50mm x 2.00mm); Supplier 1: DigiKey; Supplier Part Number 1: 644-1067-1-ND; Type: MHz Crystal; Value: 44MHz
footprint NDK NX2520SA
pins: 1, 2 GND, 3, 4 GND

## NX2520SA-48.000000MHZ
designator Y?, comment 48MHz
CRYSTAL 48.0000MHZ 10PF SMD; Part Number: NX2520SA-48.000000MHZ; Manufacturer: NDK America, Inc.; ESR (Equivalent Series Resistance): 40 Ohms; Frequency Stability: ±10ppm; Operating Mode: Fundamental; ComponentLink1Description: Datasheet; ComponentLink1URL: //media.digikey.com/pdf/Data%20Sheets/NDK%20PDFs/NX2520SA_16-48MHZ.pdf; ComponentLink2Description: DigiKey Link; ComponentLink2URL: http://digikey.com/product-detail/en/ndk-america-inc/NX2520SA-48.000000MHZ/644-1068-1-ND/1128940; Frequency: 48MHz; Frequency Tolerance: ±10ppm; Height - Seated (Max): 0.026" (0.65mm); LastUpdated: 9/2/2020 1:21:57 AM; Lifecycle Status: Active; Load Capacitance: 10pF; Minimum Order: 1; Mounting Type: Surface Mount; Operating Temperature: -10°C ~ 60°C; Package / Case: 4-SMD, No Lead; Packaging: TapeAndReel; PartId: 534; Part Status: Active; Price: 0.79; Series: NX2520SA; Size / Dimension: 0.098" L x 0.079" W (2.50mm x 2.00mm); Supplier 1: DigiKey; Supplier Part Number 1: 644-1068-1-ND; Type: MHz Crystal; Value: 48MHz
footprint NDK NX2520SA
pins: 1, 2 GND, 3, 4 GND